# Altium footprint library latch_sdc_pcblib.PcbLib: 14 footprints
Each footprint in its own frame and in the unit in brackets; x right, y up, seen from the top. Pads: shape width x height; smd on the part's side, far side on the other; paste and mask are expansions set on the pad; w line width, h text height; cw(c..) or ccw(c..) is an arc to the next point about the centre after c.
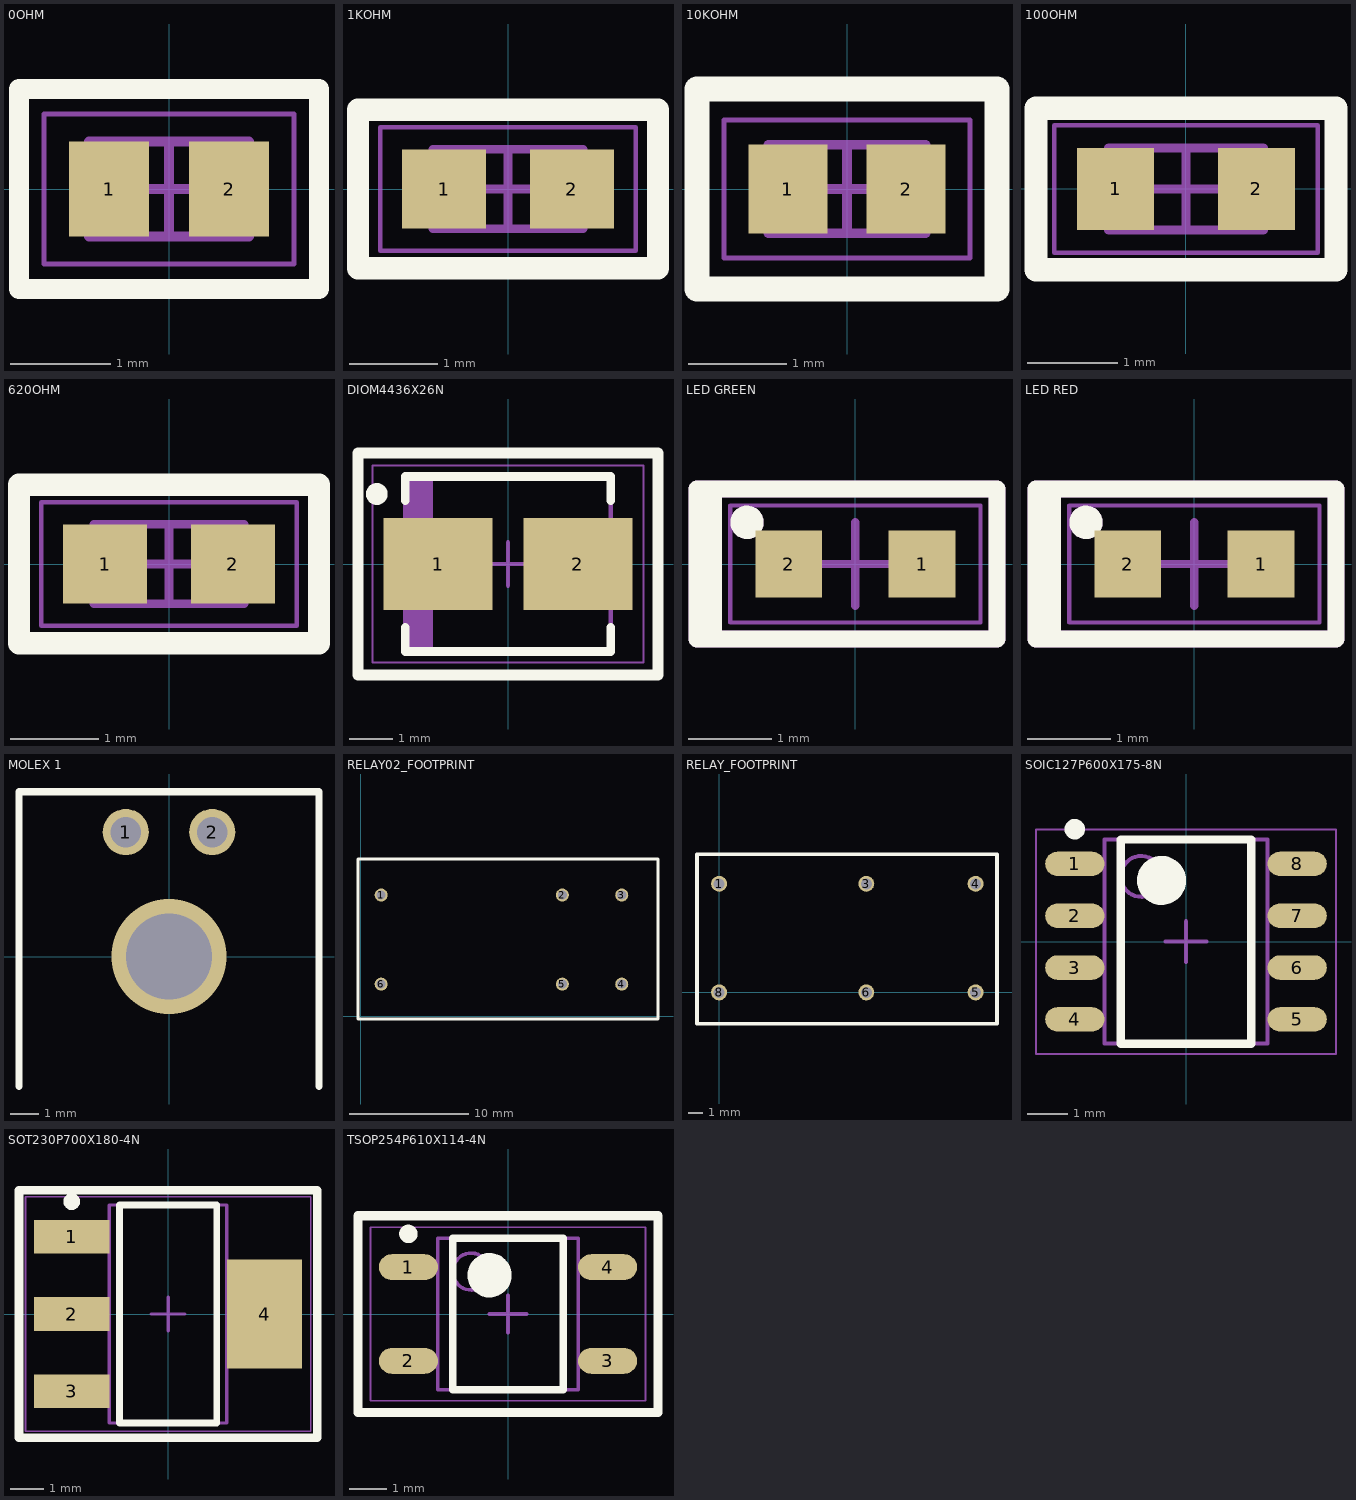
[diagram p0: the footprints below, top view; thin cyan lines are the x and y axes]

## 0OHM [mm]
height 0.55
pads (2):
  rect 0.8x0.95 smd: 1(-0.6,0) 2(0.6,0)
Top Overlay:
  lines w0.2: -1.5,-1 -1.5,1 1.5,1 1.5,-1 -1.5,-1
Mechanical 13:
  lines w0.1: -0.8,-0.475 -0.8,0.475 0.8,0.475 0.8,-0.475 -0.8,-0.475
Mechanical 15:
  lines w0.05: -1.25,-0.75 -1.25,0.75 1.25,0.75 1.25,-0.75 -1.25,-0.75
  lines w0.1: -0.475,0 0.475,0 ; 0,-0.475 0,0.475
3D body: height 0.55, standoff 0, extent -0.5,-0.475 0.5,0.475
3D body: height 0.55, standoff 0, extent -0.8,-0.475 -0.5,0.475
3D body: height 0.55, standoff 0, extent 0.5,-0.475 0.8,0.475

## 1KOHM [mm] "Chip Resistor, 2-Leads, Body 1.60x0.80mm, IPC Medium Density"
height 0.55
pads (2):
  rect 0.95x0.9 smd: 1(-0.725,0) 2(0.725,0)
Top Overlay:
  lines w0.254: -1.7,-0.9 -1.7,0.9 1.7,0.9 1.7,-0.9 -1.7,-0.9
Mechanical 13:
  lines w0.1: -0.85,-0.45 -0.85,0.45 0.85,0.45 0.85,-0.45 -0.85,-0.45
Mechanical 15:
  lines w0.05: -1.45,-0.7 -1.45,0.7 1.45,0.7 1.45,-0.7 -1.45,-0.7
  lines w0.1: -0.45,0 0.45,0 ; 0,-0.45 0,0.45
3D body: height 0.55, standoff 0, extent -0.55,-0.45 0.55,0.45
3D body: height 0.55, standoff 0, extent -0.85,-0.45 -0.55,0.45
3D body: height 0.55, standoff 0, extent 0.55,-0.45 0.85,0.45

## 10KOHM [mm] "Chip Resistor, 2-Leads, Body 1.50x0.80mm, IPC Medium Density"
height 0.5
pads (2):
  rect 0.8x0.9 smd: 1(-0.6,0) 2(0.6,0)
Top Overlay:
  lines w0.254: -1.524,-1.016 -1.524,1.016 1.524,1.016 1.524,-1.016 -1.524,-1.016
Mechanical 13:
  lines w0.1: -0.8,-0.45 -0.8,0.45 0.8,0.45 0.8,-0.45 -0.8,-0.45
Mechanical 15:
  lines w0.05: -1.25,-0.7 -1.25,0.7 1.25,0.7 1.25,-0.7 -1.25,-0.7
  lines w0.1: -0.45,0 0.45,0 ; 0,-0.45 0,0.45
3D body: height 0.5, standoff 0, extent -0.5,-0.45 0.5,0.45
3D body: height 0.5, standoff 0, extent -0.8,-0.45 -0.5,0.45
3D body: height 0.5, standoff 0, extent 0.5,-0.45 0.8,0.45

## 100OHM [mm] "Chip Resistor, 2-Leads, Body 1.60x0.80mm, IPC Medium Density"
height 0.55
pads (2):
  rect 0.85x0.9 smd: 1(-0.775,0) 2(0.775,0)
Top Overlay:
  lines w0.254: -1.651,-0.889 1.651,-0.889 1.651,0.889 -1.651,0.889 -1.651,-0.889
Mechanical 13:
  lines w0.1: -0.85,-0.45 0.85,-0.45 0.85,0.45 -0.85,0.45 -0.85,-0.45
Mechanical 15:
  lines w0.05: -1.45,-0.7 1.45,-0.7 1.45,0.7 -1.45,0.7 -1.45,-0.7
  lines w0.1: -0.45,0 0.45,0 ; 0,-0.45 0,0.45
3D body: height 0.55, standoff 0, extent 0.6,-0.45 0.85,0.45
3D body: height 0.55, standoff 0, extent -0.85,-0.45 -0.6,0.45
3D body: height 0.55, standoff 0, extent -0.6,-0.45 0.6,0.45

## 620OHM [mm]
pads (2):
  rect 0.95x0.9 smd: 1(-0.725,0) 2(0.725,0)
Top Overlay:
  lines w0.254: -1.7,-0.9 -1.7,0.9 1.7,0.9 1.7,-0.9 -1.7,-0.9
Mechanical 13:
  lines w0.1: -0.85,-0.45 -0.85,0.45 0.85,0.45 0.85,-0.45 -0.85,-0.45
Mechanical 15:
  lines w0.05: -1.45,-0.7 -1.45,0.7 1.45,0.7 1.45,-0.7 -1.45,-0.7
  lines w0.1: -0.45,0 0.45,0 ; 0,-0.45 0,0.45
3D body: height 0.55, standoff 0, extent -0.55,-0.45 0.55,0.45
3D body: height 0.55, standoff 0, extent -0.85,-0.45 -0.55,0.45
3D body: height 0.55, standoff 0, extent 0.55,-0.45 0.85,0.45

## DIOM4436X26N [mm] "Molded Diode, 2-Leads, Body 4.38x3.62mm, IPC Medium Density"
height 2.6
pads (2):
  rect 2.5x2.1 smd: 1(-1.6,0) 2(1.6,0)
Top Overlay:
  circle w0.25: c-3,1.6 r0.125
  lines w0.2: -2.35,-1.45 -2.35,-2 2.35,-2 2.35,-1.45 ; -2.35,1.45 -2.35,2 2.35,2 2.35,1.45
  lines w0.254: -3.429,-2.54 3.429,-2.54 3.429,2.54 -3.429,2.54 -3.429,-2.54
Mechanical 13:
  rectangle: -2.35,-1.97 -1.718,1.97
  lines w0.1: -2.35,-1.97 -2.35,1.97 2.35,1.97 2.35,-1.97 -2.35,-1.97
Mechanical 15:
  lines w0.05: -3.1,-2.25 -3.1,2.25 3.1,2.25 3.1,-2.25 -3.1,-2.25
  lines w0.1: -0.5,0 0.5,0 ; 0,-0.5 0,0.5
3D body: height 2.6, standoff 0, extent -2.35,-1.97 2.35,1.97

## LED GREEN [mm]
pads (2):
  rect 0.8x0.8 smd: 1(0.8,0) 2(-0.8,0)
Top Overlay:
  circle w0.2: c-1.3,0.5 r0.1
  rectangle: -1.9,-0.9 -1.6,0.9
  lines w0.2: -1.9,-0.9 -1.9,0.9 1.7,0.9 1.7,-0.9 -1.9,-0.9
Mechanical 15:
  lines w0.05: -1.5,-0.7 1.5,-0.7 1.5,0.7 -1.5,0.7 -1.5,-0.7
  lines w0.1: -0.5,0 0.5,0 ; 0,-0.5 0,0.5
Mechanical 29:
  circle w0.2: c-1.3,0.5 r0.1
  rectangle: -1.9,-0.9 -1.6,0.9
  lines w0.2: -1.9,-0.9 1.7,-0.9 1.7,0.9 -1.9,0.9 -1.9,-0.9
3D body "STP_150060xS75000 (rev1).stp": height 0.7, standoff 0, extent -0.8,-0.4 0.8,0.4

## LED RED [mm]
pads (2):
  rect 0.8x0.8 smd: 1(0.8,0) 2(-0.8,0)
Top Overlay:
  circle w0.2: c-1.3,0.5 r0.1
  rectangle: -1.9,-0.9 -1.6,0.9
  lines w0.2: -1.9,-0.9 1.7,-0.9 1.7,0.9 -1.9,0.9 -1.9,-0.9
Mechanical 15:
  lines w0.05: -1.5,-0.7 -1.5,0.7 1.5,0.7 1.5,-0.7 -1.5,-0.7
  lines w0.1: -0.5,0 0.5,0 ; 0,-0.5 0,0.5
Mechanical 29:
  circle w0.2: c-1.3,0.5 r0.1
  rectangle: -1.9,-0.9 -1.6,0.9
  region: -1.3,0.7
  lines w0.2: -1.9,-0.9 -1.9,0.9 1.7,0.9 1.7,-0.9 -1.9,-0.9
3D body "STP_150060xS75000 (rev1).stp": height 0.7, standoff 0, extent -0.8,-0.4 0.8,0.4

## MOLEX 1 [mm]
pads (2):
  round 1.6 hole 1.06: 1(-1.5,4.32) 2(1.5,4.32)
via 0,0 diameter 4 hole 3
Top Overlay:
  lines w0.254: -5.207,-4.5 -5.207,5.715 5.207,5.715 5.207,-4.5
3D body "436500200.stp": height 6.13, standoff -2.77, extent -4.825,-4.569 4.825,5.331

## RELAY02_FOOTPRINT [mm]
pads (6):
  round 1.1 hole 0.762: 1(1.7,10.2) 2(16.95,10.2) 3(21.95,10.2) 4(21.95,2.7) 5(16.95,2.7) 6(1.7,2.7)
Top Overlay:
  lines w0.254: -0.25,-0.25 -0.25,13.25 25,13.25 25,-0.25 -0.25,-0.25
3D body "1891796_osa-ss-224dm3_000.stp": height 24.51, standoff -4.29, extent 0,0 24.4,12.9
3D body: height 0.25, standoff 0, extent 0,0 24.4,12.9

## RELAY_FOOTPRINT [mm]
pads (6):
  round 1.1 hole 0.762: 1(0,7.493) 3(10.16,7.493) 4(17.7,7.493) 5(17.7,0) 6(10.16,0) 8(0,0)
Top Overlay:
  lines w0.254: -1.524,-2.159 -1.524,9.525 19.177,9.525 19.177,-2.159 -1.524,-2.159
3D body "G6B_2014P_US.step": height 11, standoff -3.5, extent -1.11,-1.778 18.89,9.222

## SOIC127P600X175-8N [mm] "SOIC, 8-Leads, Body 4.90x3.90mm, Pitch 1.27mm, IPC Medium Density"
height 1.75
pads (8):
  oval 1.45x0.6 smd: 1(-2.725,1.905) 2(-2.725,0.635) 3(-2.725,-0.635) 4(-2.725,-1.905) 5(2.725,-1.905) 6(2.725,-0.635) 7(2.725,0.635) 8(2.725,1.905)
Top Overlay:
  circle w0.25: c-2.725,2.755 r0.125
  circle w0.6: c-0.6,1.5 r0.3
  lines w0.2: -1.6,-2.5 -1.6,2.5 1.6,2.5 1.6,-2.5 -1.6,-2.5
Mechanical 13:
  circle w0.1: c-1.1,1.6 r0.5
  lines w0.1: -2,-2.5 -2,2.5 2,2.5 2,-2.5 -2,-2.5
Mechanical 15:
  lines w0.05: -3.675,-2.75 -3.675,2.75 3.675,2.75 3.675,-2.75 -3.675,-2.75
  lines w0.1: -0.5,0 0.5,0 ; 0,-0.5 0,0.5
3D body: height 1.75, standoff 0.2, extent -2,-2.5 2,2.5

## SOT230P700X180-4N [mm] "SOT223, 4-Leads, Body 6.40x7.00mm (avg), Pitch 2.30mm, IPC Medium Density"
height 1.8
pads (4):
  rect 2.25x1 smd: 1(-2.875,2.3) 2(-2.875,0) 3(-2.875,-2.3)
  rect 2.25x3.25 smd: 4(2.875,0)
Top Overlay:
  circle w0.25: c-2.875,3.35 r0.125
  lines w0.2: -1.45,-3.25 -1.45,3.25 1.45,3.25 1.45,-3.25 -1.45,-3.25
  lines w0.254: -4.445,-3.683 -4.445,3.683 4.445,3.683 4.445,-3.683 -4.445,-3.683
Mechanical 13:
  lines w0.1: -1.75,-3.25 -1.75,3.25 1.75,3.25 1.75,-3.25 -1.75,-3.25
Mechanical 15:
  lines w0.05: -4.25,-3.5 -4.25,3.5 4.25,3.5 4.25,-3.5 -4.25,-3.5
  lines w0.1: -0.5,0 0.5,0 ; 0,-0.5 0,0.5
3D body: height 1.8, standoff 0.02, extent -1.75,-3.25 1.75,3.25

## TSOP254P610X114-4N [mm] "TSOP, 4-Leads, Body 4.09x3.81mm, Pitch 2.54mm, IPC Medium Density"
height 1.14
pads (4):
  oval 1.6x0.7 smd: 1(-2.7,1.27) 2(-2.7,-1.27) 3(2.7,-1.27) 4(2.7,1.27)
Top Overlay:
  circle w0.6: c-0.5,1.05 r0.3
  circle w0.25: c-2.7,2.17 r0.125
  lines w0.2: -1.5,-2.05 1.5,-2.05 1.5,2.05 -1.5,2.05 -1.5,-2.05
  lines w0.254: -4.064,-2.667 -4.064,2.667 4.064,2.667 4.064,-2.667 -4.064,-2.667
Mechanical 13:
  circle w0.1: c-1,1.15 r0.5
  lines w0.1: -1.9,-2.05 1.9,-2.05 1.9,2.05 -1.9,2.05 -1.9,-2.05
Mechanical 15:
  lines w0.05: -3.725,-2.35 3.725,-2.35 3.725,2.35 -3.725,2.35 -3.725,-2.35
  lines w0.1: -0.5,0 0.5,0 ; 0,-0.5 0,0.5
3D body: height 1.14, standoff 0.2, extent -1.9,-2.05 1.9,2.05